# Altium schematic symbol library ESP8266-12F.SchLib: 3 symbols
Pins are listed as number, name and electrical type; pins without a type are passive.

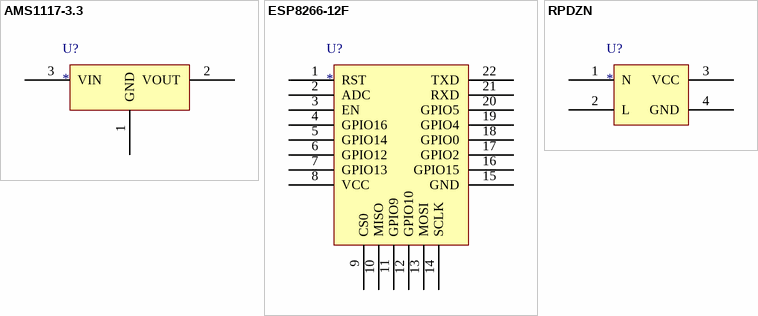
[diagram p0: symbols AMS1117-3.3 to RPDZN]

## AMS1117-3.3
designator U?
pins: 1 GND, 2 VOUT, 3 VIN

## ESP8266-12F
designator U?
pins: 1 RST, 2 ADC, 3 EN, 4 GPIO16, 5 GPIO14, 6 GPIO12, 7 GPIO13, 8 VCC, 9 CS0, 10 MISO, 11 GPIO9, 12 GPIO10, 13 MOSI, 14 SCLK, 15 GND, 16 GPIO15, 17 GPIO2, 18 GPIO0, 19 GPIO4, 20 GPIO5, 21 RXD, 22 TXD

## RPDZN
designator U?
pins: 1 N, 2 L, 3 VCC, 4 GND